# Altium footprint library IC-DIP.PcbLib: 15 footprints
Each footprint in its own frame and in the unit in brackets; x right, y up, seen from the top. Pads: shape width x height; smd on the part's side, far side on the other; paste and mask are expansions set on the pad; w line width, h text height; cw(c..) or ccw(c..) is an arc to the next point about the centre after c.
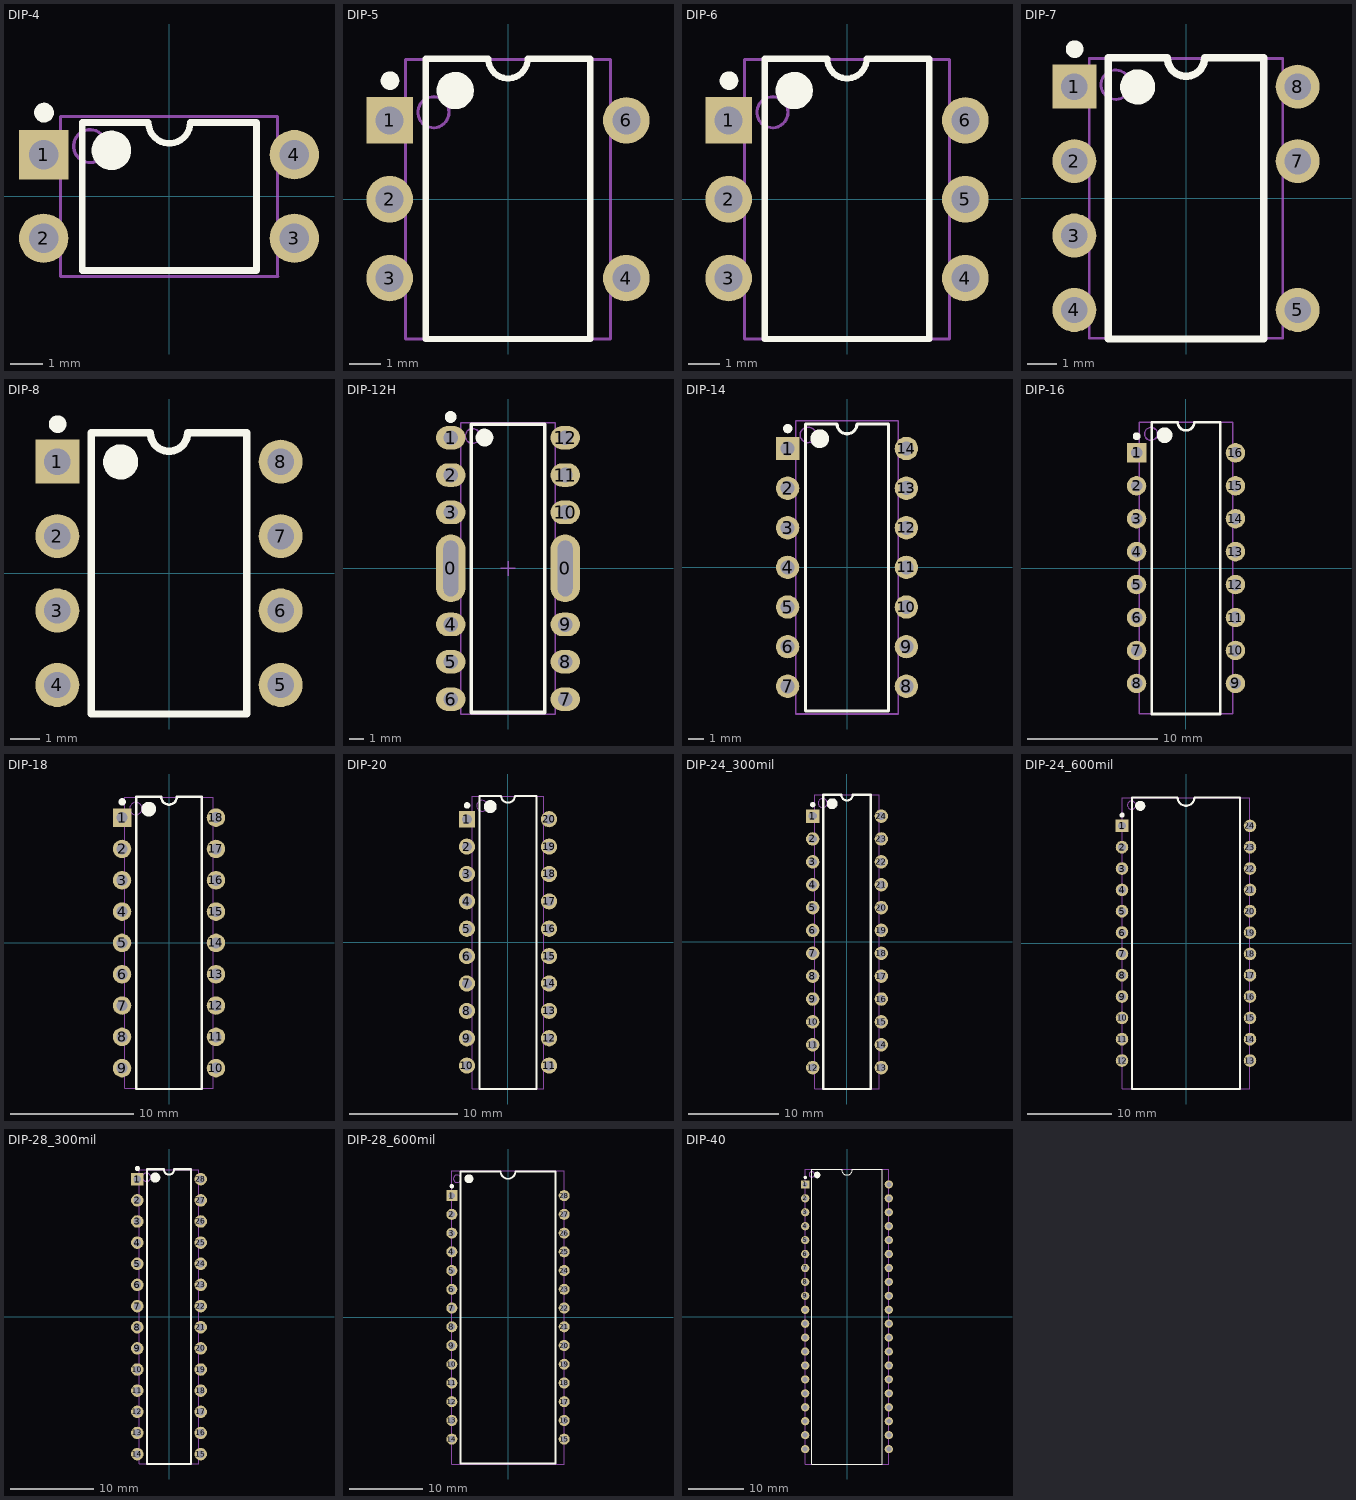
[diagram p0: the footprints below, top view; thin cyan lines are the x and y axes]

## DIP-4 [mm]
pads (4):
  rect 1.5x1.5 hole 0.9: 1(-3.81,1.27)
  round 1.5 hole 0.9: 2(-3.81,-1.27) 3(3.81,-1.27) 4(3.81,1.27)
Top Overlay:
  circle w0.3: c-3.8,2.55 r0.15
  circle w0.6: c-1.75,1.4 r0.3
  lines w0.2: -2.64,-2.25 2.66,-2.25 2.66,2.25 0.645,2.25 cw(c0.01,2.25) -0.625,2.25 -2.64,2.25 -2.64,-2.25
Mechanical 13:
  circle w0.1: c-2.4,1.53 r0.5
  lines w0.1: -3.3,-2.43 -3.3,2.43 3.3,2.43 3.3,-2.43 ; -3.29,-2.43 3.31,-2.43

## DIP-5 [mm]
pads (5):
  rect 1.5x1.5 hole 0.9: 1(-3.81,2.54)
  round 1.5 hole 0.9: 2(-3.81,0) 3(-3.81,-2.54) 4(3.81,-2.54) 6(3.81,2.54)
Top Overlay:
  circle w0.3: c-3.8,3.82 r0.15
  circle w0.6: c-1.7,3.5 r0.3
  lines w0.2: -2.65,-4.5 2.65,-4.5 2.65,4.525 0.635,4.525 cw(c0,4.525) -0.635,4.525 -2.65,4.525 -2.65,-4.5
Mechanical 13:
  circle w0.1: c-2.4,2.8 r0.5
  lines w0.1: -3.3,-4.5 3.3,-4.5 3.3,4.5 -3.3,4.5 -3.3,-4.5

## DIP-6 [mm]
pads (6):
  rect 1.5x1.5 hole 0.9: 1(-3.81,2.54)
  round 1.5 hole 0.9: 2(-3.81,0) 3(-3.81,-2.54) 4(3.81,-2.54) 5(3.81,0) 6(3.81,2.54)
Top Overlay:
  circle w0.3: c-3.8,3.82 r0.15
  circle w0.6: c-1.7,3.5 r0.3
  lines w0.2: -2.65,-4.5 2.65,-4.5 2.65,4.525 0.635,4.525 cw(c0,4.525) -0.635,4.525 -2.65,4.525 -2.65,-4.5
Mechanical 13:
  circle w0.1: c-2.4,2.8 r0.5
  lines w0.1: -3.3,-4.5 3.3,-4.5 3.3,4.5 -3.3,4.5 -3.3,-4.5

## DIP-7 [mm]
pads (7):
  rect 1.5x1.5 hole 0.9: 1(-3.81,3.81)
  round 1.5 hole 0.9: 2(-3.81,1.27) 3(-3.81,-1.27) 4(-3.81,-3.81) 5(3.81,-3.81) 7(3.81,1.27) 8(3.81,3.81)
Top Overlay:
  circle w0.3: c-3.8,5.09 r0.15
  circle w0.6: c-1.65,3.8 r0.3
  lines w0.254: -2.65,-4.8 -2.65,4.8 -0.635,4.8 ccw(c0,4.8) 0.635,4.8 2.65,4.8 2.65,-4.8 -2.65,-4.8
Mechanical 13:
  circle w0.1: c-2.4,3.875 r0.5
  lines w0.1: -3.3,-4.775 -3.3,4.775 3.3,4.775 3.3,-4.775 -3.3,-4.775

## DIP-8 [mm]
pads (8):
  rect 1.5x1.5 hole 0.9: 1(-3.81,3.81)
  round 1.5 hole 0.9: 2(-3.81,1.27) 3(-3.81,-1.27) 4(-3.81,-3.81) 5(3.81,-3.81) 6(3.81,-1.27) 7(3.81,1.27) 8(3.81,3.81)
Top Overlay:
  circle w0.3: c-3.8,5.09 r0.15
  circle w0.6: c-1.65,3.8 r0.3
  lines w0.254: -2.65,-4.8 -2.65,4.8 -0.635,4.8 ccw(c0,4.8) 0.635,4.8 2.65,4.8 2.65,-4.8 -2.65,-4.8
3D body "SW3dPS-DIP08-300.STEP": height 5.08, standoff -2.49, extent -3.935,-5.46 3.935,5.46

## DIP-12H [mm] "=12-DIPH-300"
pads (14):
  oval 2x4.6 hole 1 slot 3.8 at 90 deg: 0(-3.89,0) 0(3.89,0)
  oval 2x1.6 hole 1: 1(-3.89,8.89) 2(-3.89,6.35) 3(-3.89,3.81) 4(-3.89,-3.81) 5(-3.89,-6.35) 6(-3.89,-8.89) 7(3.89,-8.89) 8(3.89,-6.35) 9(3.89,-3.81) 10(3.89,3.81) 11(3.89,6.35) 12(3.89,8.89)
Top Overlay:
  circle w0.6: c-1.6,8.9 r0.3
  circle w0.4: c-3.9,10.3 r0.2
  lines w0.254: -2.5,-9.8 -2.5,9.8 2.5,9.8 2.5,-9.8 -2.5,-9.8
Mechanical 13:
  circle w0.1: c-2.4,9 r0.5
  lines w0.1: -3.2,-9.9 3.2,-9.9 3.2,9.9 -3.2,9.9 -3.2,-9.9
Mechanical 15:
  lines w0.1: -0.5,0 0.5,0 ; 0,-0.5 0,0.5

## DIP-14 [mm]
pads (14):
  rect 1.5x1.5 hole 0.9: 1(-3.81,7.62)
  round 1.5 hole 0.9: 2(-3.81,5.08) 3(-3.81,2.54) 4(-3.81,0) 5(-3.81,-2.54) 6(-3.81,-5.08) 7(-3.81,-7.62) 8(3.81,-7.62) 9(3.81,-5.08) 10(3.81,-2.54) 11(3.81,0) 12(3.81,2.54) 13(3.81,5.08) 14(3.81,7.62)
Top Overlay:
  circle w0.3: c-3.8,8.9 r0.15
  circle w0.6: c-1.75,8.25 r0.3
  lines w0.2: -2.65,-9.2 -2.65,9.2 -0.635,9.2 ccw(c0,9.2) 0.635,9.2 2.65,9.2 2.65,-9.2 -2.65,-9.2
Mechanical 13:
  circle w0.1: c-2.5,8.5 r0.5
  lines w0.1: -3.3,-9.4 3.3,-9.4 3.3,9.4 -3.3,9.4 -3.3,-9.4

## DIP-16 [mm]
pads (16):
  rect 1.5x1.5 hole 0.9: 1(-3.81,8.89)
  round 1.5 hole 0.9: 2(-3.81,6.35) 3(-3.81,3.81) 4(-3.81,1.27) 5(-3.81,-1.27) 6(-3.81,-3.81) 7(-3.81,-6.35) 8(-3.81,-8.89) 9(3.81,-8.89) 10(3.81,-6.35) 11(3.81,-3.81) 12(3.81,-1.27) 13(3.81,1.27) 14(3.81,3.81) 15(3.81,6.35) 16(3.81,8.89)
Top Overlay:
  circle w0.6: c-1.65,10.25 r0.3
  circle w0.3: c-3.8,10.17 r0.15
  lines w0.2: -2.65,-11.25 2.65,-11.25 2.65,11.25 0.635,11.25 cw(c0,11.25) -0.635,11.25 -2.65,11.25 -2.65,-11.25
Mechanical 13:
  circle w0.1: c-2.7,10.35 r0.5
  lines w0.1: -3.6,-11.25 3.6,-11.25 3.6,11.25 -3.6,11.25 -3.6,-11.25

## DIP-18 [mm]
pads (18):
  rect 1.5x1.5 hole 0.9: 1(-3.81,10.16)
  round 1.5 hole 0.9: 2(-3.81,7.62) 3(-3.81,5.08) 4(-3.81,2.54) 5(-3.81,0) 6(-3.81,-2.54) 7(-3.81,-5.08) 8(-3.81,-7.62) 9(-3.81,-10.16) 10(3.81,-10.16) 11(3.81,-7.62) 12(3.81,-5.08) 13(3.81,-2.54) 14(3.81,0) 15(3.81,2.54) 16(3.81,5.08) 17(3.81,7.62) 18(3.81,10.16)
Top Overlay:
  circle w0.6: c-1.65,10.85 r0.3
  circle w0.3: c-3.8,11.44 r0.15
  lines w0.2: -2.65,-11.85 -2.65,11.85 -0.635,11.85 ccw(c0,11.85) 0.635,11.85 2.65,11.85 2.65,-11.85 -2.65,-11.85
Mechanical 13:
  circle w0.1: c-2.7,10.9 r0.5
  lines w0.1: -3.6,-11.8 -3.6,11.8 3.6,11.8 3.6,-11.8 -3.6,-11.8

## DIP-20 [mm]
pads (20):
  rect 1.5x1.5 hole 0.9: 1(-3.81,11.43)
  round 1.5 hole 0.9: 2(-3.81,8.89) 3(-3.81,6.35) 4(-3.81,3.81) 5(-3.81,1.27) 6(-3.81,-1.27) 7(-3.81,-3.81) 8(-3.81,-6.35) 9(-3.81,-8.89) 10(-3.81,-11.43) 11(3.81,-11.43) 12(3.81,-8.89) 13(3.81,-6.35) 14(3.81,-3.81) 15(3.81,-1.27) 16(3.81,1.27) 17(3.81,3.81) 18(3.81,6.35) 19(3.81,8.89) 20(3.81,11.43)
Top Overlay:
  circle w0.6: c-1.65,12.6 r0.3
  circle w0.3: c-3.8,12.71 r0.15
  lines w0.2: -2.65,-13.6 2.65,-13.6 2.65,13.6 0.635,13.6 cw(c0,13.6) -0.635,13.6 -2.65,13.6 -2.65,-13.6
Mechanical 13:
  circle w0.1: c-2.4,12.675 r0.5
  lines w0.1: -3.3,-13.575 3.3,-13.575 3.3,13.575 -3.3,13.575 -3.3,-13.575

## DIP-24_300mil [mm]
pads (24):
  rect 1.5x1.5 hole 0.9: 1(-3.81,13.97)
  round 1.5 hole 0.9: 2(-3.81,11.43) 3(-3.81,8.89) 4(-3.81,6.35) 5(-3.81,3.81) 6(-3.81,1.27) 7(-3.81,-1.27) 8(-3.81,-3.81) 9(-3.81,-6.35) 10(-3.81,-8.89) 11(-3.81,-11.43) 12(-3.81,-13.97) 13(3.81,-13.97) 14(3.81,-11.43) 15(3.81,-8.89) 16(3.81,-6.35) 17(3.81,-3.81) 18(3.81,-1.27) 19(3.81,1.27) 20(3.81,3.81) 21(3.81,6.35) 22(3.81,8.89) 23(3.81,11.43) 24(3.81,13.97)
Top Overlay:
  circle w0.6: c-1.65,15.35 r0.3
  circle w0.3: c-3.8,15.25 r0.15
  lines w0.254: -2.65,-16.35 -2.65,16.35 -0.635,16.35 ccw(c0,16.35) 0.635,16.35 2.65,16.35 2.65,-16.35 -2.65,-16.35
Mechanical 13:
  circle w0.1: c-2.7,15.425 r0.5
  lines w0.1: -3.6,-16.325 -3.6,16.325 3.6,16.325 3.6,-16.325 -3.6,-16.325

## DIP-24_600mil [mm]
pads (24):
  rect 1.5x1.5 hole 0.9: 1(-7.62,13.97)
  round 1.5 hole 0.9: 2(-7.62,11.43) 3(-7.62,8.89) 4(-7.62,6.35) 5(-7.62,3.81) 6(-7.62,1.27) 7(-7.62,-1.27) 8(-7.62,-3.81) 9(-7.62,-6.35) 10(-7.62,-8.89) 11(-7.62,-11.43) 12(-7.62,-13.97) 13(7.62,-13.97) 14(7.62,-11.43) 15(7.62,-8.89) 16(7.62,-6.35) 17(7.62,-3.81) 18(7.62,-1.27) 19(7.62,1.27) 20(7.62,3.81) 21(7.62,6.35) 22(7.62,8.89) 23(7.62,11.43) 24(7.62,13.97)
Top Overlay:
  circle w0.3: c-7.61,15.25 r0.15
  circle w0.6: c-5.45,16.36 r0.3
  lines w0.254: -6.45,-17.36 6.45,-17.36 6.45,17.36 1,17.36 cw(c0,17.36) -1,17.36 -6.45,17.36 -6.45,-17.36
Mechanical 13:
  circle w0.1: c-6.475,16.435 r0.5
  lines w0.1: -7.6,-17.335 -7.6,17.335 7.6,17.335 7.6,-17.335 -7.6,-17.335

## DIP-28_300mil [mm]
pads (28):
  rect 1.5x1.5 hole 0.9: 1(-3.81,16.51)
  round 1.5 hole 0.9: 2(-3.81,13.97) 3(-3.81,11.43) 4(-3.81,8.89) 5(-3.81,6.35) 6(-3.81,3.81) 7(-3.81,1.27) 8(-3.81,-1.27) 9(-3.81,-3.81) 10(-3.81,-6.35) 11(-3.81,-8.89) 12(-3.81,-11.43) 13(-3.81,-13.97) 14(-3.81,-16.51) 15(3.81,-16.51) 16(3.81,-13.97) 17(3.81,-11.43) 18(3.81,-8.89) 19(3.81,-6.35) 20(3.81,-3.81) 21(3.81,-1.27) 22(3.81,1.27) 23(3.81,3.81) 24(3.81,6.35) 25(3.81,8.89) 26(3.81,11.43) 27(3.81,13.97) 28(3.81,16.51)
Top Overlay:
  circle w0.6: c-1.65,16.7 r0.3
  circle w0.3: c-3.8,17.79 r0.15
  lines w0.254: -2.65,-17.7 2.65,-17.7 2.65,17.7 0.635,17.7 cw(c0,17.7) -0.635,17.7 -2.65,17.7 -2.65,-17.7
Mechanical 13:
  circle w0.1: c-2.7,16.75 r0.5
  lines w0.1: -3.6,-17.65 3.6,-17.65 3.6,17.65 -3.6,17.65 -3.6,-17.65

## DIP-28_600mil [mm]
pads (28):
  rect 1.5x1.5 hole 0.9: 1(-7.62,16.51)
  round 1.5 hole 0.9: 2(-7.62,13.97) 3(-7.62,11.43) 4(-7.62,8.89) 5(-7.62,6.35) 6(-7.62,3.81) 7(-7.62,1.27) 8(-7.62,-1.27) 9(-7.62,-3.81) 10(-7.62,-6.35) 11(-7.62,-8.89) 12(-7.62,-11.43) 13(-7.62,-13.97) 14(-7.62,-16.51) 15(7.62,-16.51) 16(7.62,-13.97) 17(7.62,-11.43) 18(7.62,-8.89) 19(7.62,-6.35) 20(7.62,-3.81) 21(7.62,-1.27) 22(7.62,1.27) 23(7.62,3.81) 24(7.62,6.35) 25(7.62,8.89) 26(7.62,11.43) 27(7.62,13.97) 28(7.62,16.51)
Top Overlay:
  circle w0.3: c-7.61,17.79 r0.15
  circle w0.6: c-5.3,18.8 r0.3
  lines w0.254: -6.45,-19.8 -6.45,19.8 -1,19.8 ccw(c0,19.8) 1,19.8 6.45,19.8 6.45,-19.8 -6.45,-19.8
Mechanical 13:
  circle w0.1: c-6.9,18.8 r0.5
  lines w0.1: -7.6,-19.875 -7.6,19.875 7.6,19.875 7.6,-19.875 -7.6,-19.875

## DIP-40 [mm]
pads (40):
  rect 1.5x1.5 hole 0.9: 1(-7.62,24.13)
  round 1.5 hole 0.9: 2(-7.62,21.59) 3(-7.62,19.05) 4(-7.62,16.51) 5(-7.62,13.97) 6(-7.62,11.43) 7(-7.62,8.89) 8(-7.62,6.35) 9(-7.62,3.81) 10(-7.62,1.27) 11(-7.62,-1.27) 12(-7.62,-3.81) 13(-7.62,-6.35) 14(-7.62,-8.89) 15(-7.62,-11.43) 16(-7.62,-13.97) 17(-7.62,-16.51) 18(-7.62,-19.05) 19(-7.62,-21.59) 20(-7.62,-24.13) 21(7.62,-24.13) 22(7.62,-21.59) 23(7.62,-19.05) 24(7.62,-16.51) 25(7.62,-13.97) 26(7.62,-11.43) 27(7.62,-8.89) 28(7.62,-6.35) 29(7.62,-3.81) 30(7.62,-1.27) 31(7.62,1.27) 32(7.62,3.81) 33(7.62,6.35) 34(7.62,8.89) 35(7.62,11.43) 36(7.62,13.97) 37(7.62,16.51) 38(7.62,19.05) 39(7.62,21.59) 40(7.62,24.13)
Top Overlay:
  circle w0.6: c-5.45,25.85 r0.3
  circle w0.3: c-7.61,25.41 r0.15
  lines w0.2: -6.45,-26.85 6.45,-26.85 6.45,26.85 1,26.85 cw(c0,26.85) -1,26.85 -6.45,26.85 -6.45,-26.85
Mechanical 13:
  circle w0.1: c-6.4,25.95 r0.5
  lines w0.1: -7.6,-26.85 7.6,-26.85 7.6,26.85 -7.6,26.85 -7.6,-26.85